# Altium footprint library ZPWL.PcbLib: 168 footprints (part 2 of 11)
Each footprint in its own frame and in the unit in brackets; x right, y up, seen from the top. Pads: shape width x height; smd on the part's side, far side on the other; paste and mask are expansions set on the pad; w line width, h text height; cw(c..) or ccw(c..) is an arc to the next point about the centre after c.
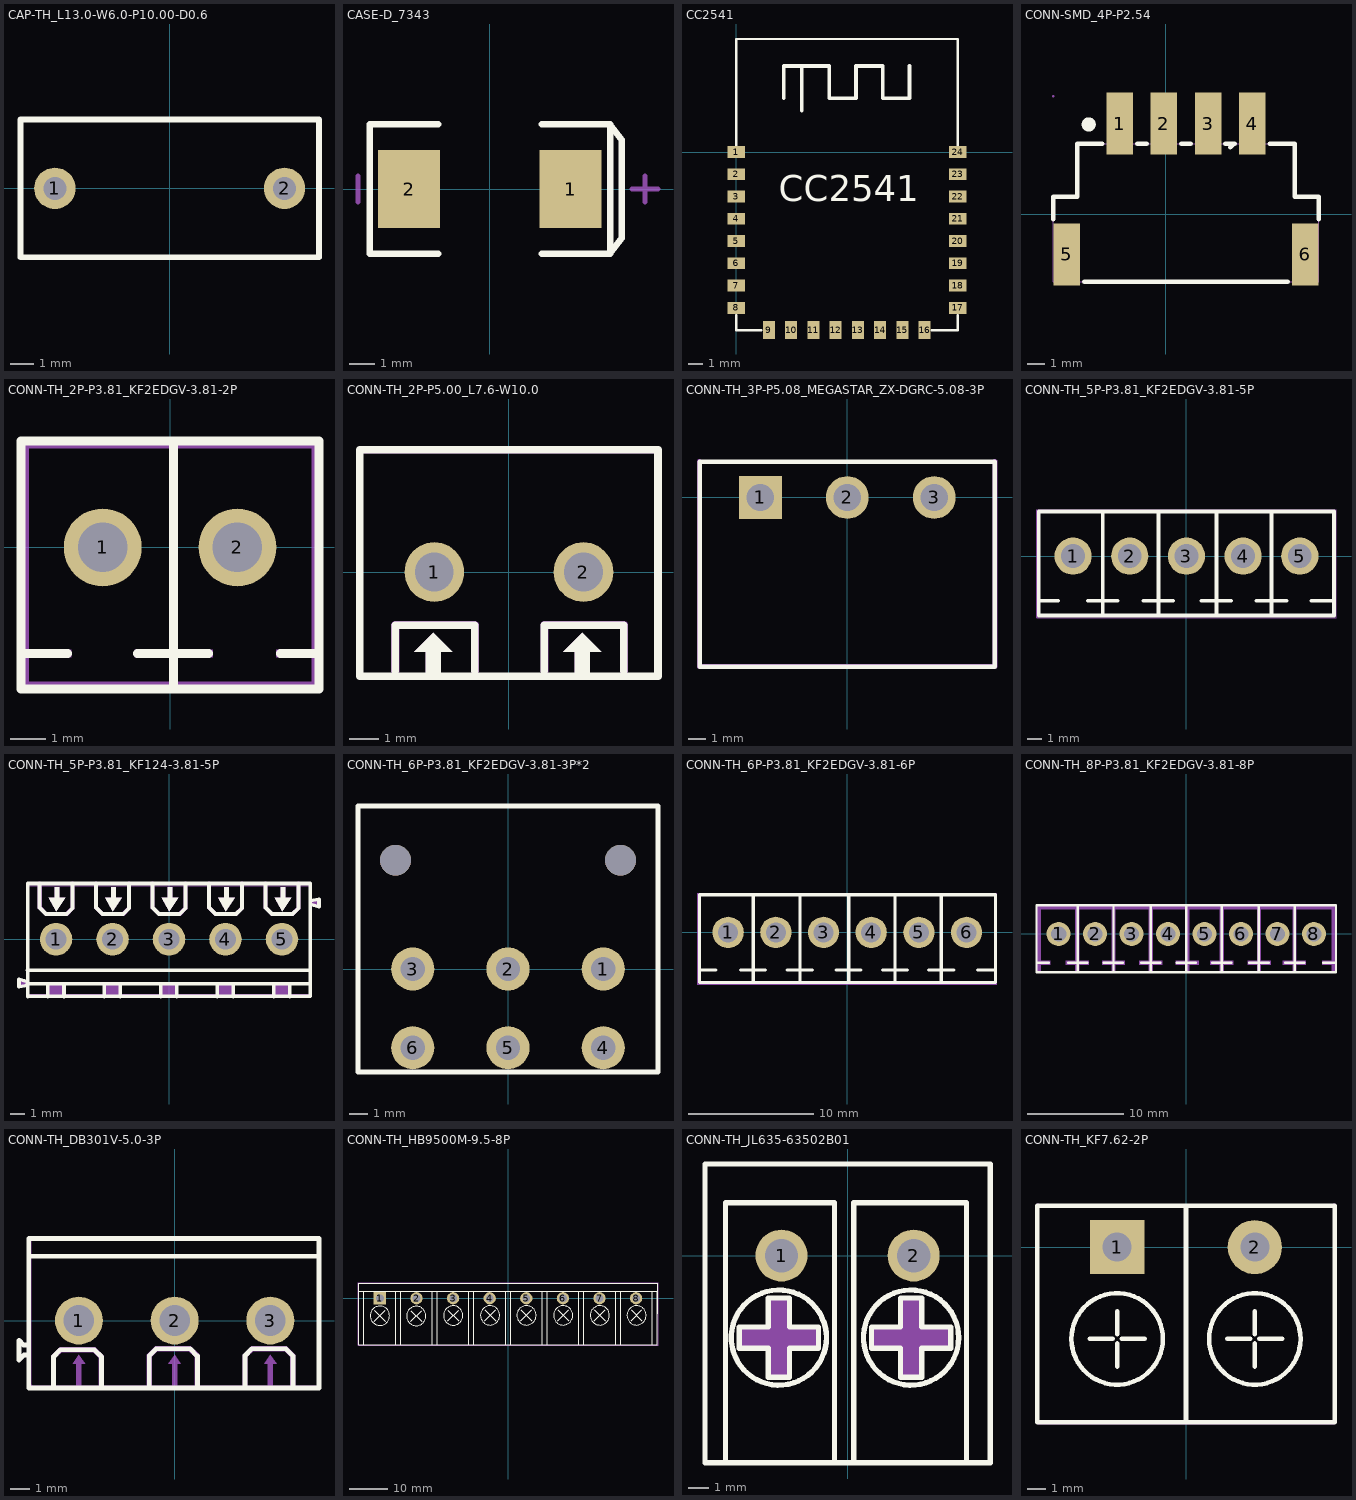
[diagram p1: the footprints below, top view; thin cyan lines are the x and y axes]

## CAP-TH_L13.0-W6.0-P10.00-D0.6 [mm]
pads (2):
  round 1.8 hole 1: 1(-5,0) 2(5,0)
Top Overlay:
  lines w0.254: -6.5,-3 -6.5,3 6.5,3 6.5,-3 -6.5,-3
Mechanical 15:
  region: -4.7,0 -4.7,0.06 -4.746,0.17 -4.83,0.254 -4.94,0.3 -5.06,0.3 -5.17,0.254 -5.254,0.17 -5.3,0.06 -5.3,0 -5.3,-0.06 -5.254,-0.17 -5.17,-0.254 -5.06,-0.3 -4.94,-0.3 -4.83,-0.254 -4.746,-0.17 -4.7,-0.06 -4.7,0
  region: 5.3,0 5.3,0.06 5.254,0.17 5.17,0.254 5.06,0.3 4.94,0.3 4.83,0.254 4.746,0.17 4.7,0.06 4.7,0 4.7,-0.06 4.746,-0.17 4.83,-0.254 4.94,-0.3 5.06,-0.3 5.17,-0.254 5.254,-0.17 5.3,-0.06 5.3,0
  region: -6.44,-3 -6.44,-2.975 -6.475,-2.94 -6.525,-2.94 -6.56,-2.975 -6.56,-3 -6.56,-3.025 -6.525,-3.06 -6.475,-3.06 -6.44,-3.025 -6.44,-3
  lines w0.051: -6.5,-3 6.5,-3 6.5,3 -6.5,3 -6.5,-3

## CASE-D_7343 [mm]
pads (2):
  rect 2.4x3 smd: 1(3.12,0) 2(-3.12,0)
Top Overlay:
  lines w0.254: -2,-2.5 -4.647,-2.5 -4.647,2.5 -2,2.5 ; 2,-2.5 4.647,-2.5 ; 2,2.5 4.647,2.5 ; 4.647,-2.5 5.1,-1.9 5.1,1.9 4.647,2.5 ; 4.647,-2.5 4.647,2.5
Mechanical 15:
  lines w0.203: -5.1,-0.5 -5.1,0.5 ; 5.5,0 6.5,0 ; 6,-0.5 6,0.5
3D body "User Library-AVX_D_CASE.STEP": height 3.01, standoff 0, extent -3.701,-2.225 3.7,2.225

## CC2541 [mm]
pads (24):
  rect 1.2x0.8 smd: 1(0,0) 2(0,-1.5) 3(0,-3) 4(0,-4.5) 5(0,-6) 6(0,-7.5) 7(0,-9) 8(0,-10.5) 17(14.935,-10.5) 18(14.935,-9) 19(14.935,-7.5) 20(14.935,-6) 21(14.935,-4.5) 22(14.935,-3) 23(14.935,-1.5) 24(14.935,0)
  rect 0.8x1.2 smd: 9(2.202,-12) 10(3.702,-12) 11(5.202,-12) 12(6.702,-12) 13(8.202,-12) 14(9.702,-12) 15(11.202,-12) 16(12.702,-12)
Top Overlay:
  lines w0.16: 0,-10.984 0,-12 1.702,-12 ; 0,0.465 0,2.56 0,7.615 1.905,7.615 14.935,7.615 14.935,1.188 14.935,0.465 ; 13.176,-12 14.935,-12 14.935,-10.984
  lines w0.254: 3.2,3.615 3.2,5.799 6.274,5.799 6.274,3.615 8.077,3.615 8.077,5.799 9.881,5.799 9.881,3.615 11.684,3.615 11.684,5.799 ; 4.42,2.802 4.42,5.723
  text "CC2541" at 2.87,-3.878 h3

## CONN-SMD_4P-P2.54 [mm]
pads (6):
  rect 1.5x3.5 smd paste+0 mask+0.05: 1(-2.608,5.114) 2(-0.108,5.114) 3(2.392,5.114) 4(4.892,5.114) 5(-5.588,-2.286) 6(7.872,-2.286)
Top Overlay:
  circle w0.4: c-4.358,5.064 r0.2
  lines w0.254: -6.358,-0.306 -6.358,0.964 -6.208,0.964 -5.008,0.964 -5.008,3.964 -3.589,3.964 ; -4.607,-3.836 6.891,-3.836 ; -1.627,3.964 -1.089,3.964 ; 0.873,3.964 1.411,3.964 ; 3.373,3.964 3.911,3.964 3.842,3.964 3.642,3.764 ; 5.873,3.964 7.292,3.964 7.292,3.814 7.292,0.964 8.642,0.964 8.642,-0.306
Mechanical 6:
  circle w0.4: c-2.558,4.714 r0.2
Mechanical 15:
  region: -5.658,-0.936 -5.358,-0.936 -5.358,-3.636 -5.658,-3.636
  region: 7.642,-0.936 7.942,-0.936 7.942,-3.636 7.642,-3.636
  region: 4.572,6.664 5.212,6.664 5.212,3.664 4.572,3.664
  region: 2.072,6.664 2.712,6.664 2.712,3.664 2.072,3.664
  region: -0.428,6.664 0.212,6.664 0.212,3.664 -0.428,3.664
  region: -2.928,6.664 -2.288,6.664 -2.288,3.664 -2.928,3.664
  region: -6.298,6.664 -6.298,6.689 -6.333,6.724 -6.383,6.724 -6.418,6.689 -6.418,6.664 -6.418,6.639 -6.383,6.604 -6.333,6.604 -6.298,6.639
  lines w0.051: -6.358,-3.836 -6.358,0.964 -5.008,0.964 -5.008,3.964 7.292,3.964 7.292,0.964 8.642,0.964 8.642,-3.836 4.192,-3.836 -6.358,-3.836

## CONN-TH_2P-P3.81_KF2EDGV-3.81-2P [mm]
pads (2):
  round 2.2 hole 1.4: 1(-1.905,0) 2(1.905,0)
Top Overlay:
  lines w0.254: -4.21,-3 -2.905,-3 ; -0.925,-3 1.085,-3 ; 0.095,-4 0.095,3 ; 3.115,-3 4.21,-3 ; -4.21,-4 4.21,-4 4.21,3 -4.21,3 -4.21,-4
Mechanical 6:
  region: -4.2,-2.9 -2.8,-2.9 -2.8,-3.1 -4.2,-3.1
  region: -1,-2.9 1.2,-2.9 1.2,-3.1 -1,-3.1
  region: 0,-1.9 0.2,-1.9 0.2,-3.9 0,-3.9
  region: 3,-2.9 4.2,-2.9 4.2,-3.1 3,-3.1
  region: -4.2,3 4.2,3 4.2,-2 4,-2 4,2.8 -4,2.8 -4,-2 -4.2,-2
  region: -4.2,-2 -4,-2 -4,-3.8 4,-3.8 4,-2 4.2,-2 4.2,-4 -4.2,-4 -4.2,-3.2
Mechanical 15:
  region: -4.15,3 -4.15,3.025 -4.185,3.06 -4.235,3.06 -4.27,3.025 -4.27,3 -4.27,2.975 -4.235,2.94 -4.185,2.94 -4.15,2.975 -4.15,3
  region: -1.505,-0.4 -2.305,-0.4 -2.305,0.4 -1.505,0.4
  region: 2.305,-0.4 1.505,-0.4 1.505,0.4 2.305,0.4
  lines w0.051: -4.21,-4 -4.21,3 4.21,3 4.21,-4 -4.21,-4
3D body "KF2EDGV-3.81-2P.STEP": height 9.3, standoff -3.4, extent -4.163,-4.129 4.257,3.072

## CONN-TH_2P-P5.00_L7.6-W10.0 [mm]
pads (2):
  round 2 hole 1.3: 1(-2.5,0) 2(2.5,0)
Top Overlay:
  region: -2.794,-3.556 -2.794,-2.667 -3.175,-2.667 -2.54,-2.032 -1.905,-2.667 -2.286,-2.667 -2.286,-3.556
  region: 2.206,-3.556 2.206,-2.667 1.825,-2.667 2.46,-2.032 3.095,-2.667 2.714,-2.667 2.714,-3.556
  lines w0.254: -3.81,-3.302 -3.81,-1.778 -1.143,-1.778 -1.143,-3.302 ; 1.19,-3.302 1.19,-1.778 3.857,-1.778 3.857,-3.302 ; -5,-3.5 5,-3.5 5,4.1 -5,4.1 -5,-3.5
Mechanical 6:
  region: -3.937,-3.302 -3.937,-1.778 -3.937,-1.753 -3.918,-1.706 -3.882,-1.67 -3.835,-1.651 -3.81,-1.651 -1.143,-1.651 -1.118,-1.651 -1.071,-1.67 -1.035,-1.706 -1.016,-1.753 -1.016,-1.778 -1.016,-3.302 -1.016,-3.355 -1.091,-3.429 -1.196,-3.429 -1.27,-3.355 -1.27,-3.302 -1.27,-1.905 -3.683,-1.905 -3.683,-3.302 -3.683,-3.355 -3.758,-3.429 -3.863,-3.429 -3.937,-3.355 -3.937,-3.302
  region: -2.794,-3.556 -2.794,-2.667 -3.175,-2.667 -2.54,-2.032 -1.905,-2.667 -2.286,-2.667 -2.286,-3.556
  region: 2.206,-3.556 2.206,-2.667 1.825,-2.667 2.46,-2.032 3.095,-2.667 2.714,-2.667 2.714,-3.556
  region: 1.063,-3.302 1.063,-1.778 1.063,-1.753 1.082,-1.706 1.118,-1.67 1.165,-1.651 1.19,-1.651 3.857,-1.651 3.882,-1.651 3.929,-1.67 3.965,-1.706 3.984,-1.753 3.984,-1.778 3.984,-3.302 3.984,-3.355 3.909,-3.429 3.804,-3.429 3.73,-3.355 3.73,-3.302 3.73,-1.905 1.317,-1.905 1.317,-3.302 1.317,-3.355 1.242,-3.429 1.137,-3.429 1.063,-3.355 1.063,-3.302
Mechanical 15:
  region: -4.94,-3.5 -4.94,-3.475 -4.975,-3.44 -5.025,-3.44 -5.06,-3.475 -5.06,-3.5 -5.06,-3.525 -5.025,-3.56 -4.975,-3.56 -4.94,-3.525 -4.94,-3.5
  region: -2.8,0.5 -2.2,0.5 -2.2,-0.5 -2.8,-0.5
  region: 2.2,0.5 2.8,0.5 2.8,-0.5 2.2,-0.5
  lines w0.051: -5,-3.5 -5,4 5,4 5,-3.5 -5,-3.5
3D body "3D_PCB1_2023-10-07.step": height 11.6, standoff -2.2, extent -7.079,-3.5 5,5.901

## CONN-TH_3P-P5.08_MEGASTAR_ZX-DGRC-5.08-3P [mm]
pads (3):
  rect 2.5x2.5 hole 1.6 paste+0.051: 1(-5.08,0)
  round 2.5 hole 1.6 paste+0.051: 2(0,0) 3(5.08,0)
Top Overlay:
  lines w0.254: -8.632,-9.896 8.625,-9.896 8.625,2.098 -8.632,2.098 -8.632,-9.896
Mechanical 2:
  region: -8.531,2.094 -8.531,-9.76 8.497,-9.76 8.497,2.111 8.497,2.164 8.571,2.238 8.677,2.238 8.751,2.164 8.751,2.111 8.751,-9.887 8.751,-9.912 8.732,-9.959 8.696,-9.995 8.649,-10.014 8.624,-10.014 -8.658,-10.014 -8.683,-10.014 -8.73,-9.995 -8.766,-9.959 -8.785,-9.912 -8.785,-9.887 -8.785,2.094 -8.785,2.147 -8.711,2.221 -8.605,2.221 -8.531,2.147
Mechanical 6:
  lines w0.051: -8.62,-9.9 -8.62,2.1 8.62,2.1 8.62,-9.9 -8.62,-9.9
Mechanical 8:
  region: -8.56,-9.9 -8.56,-9.925 -8.595,-9.96 -8.645,-9.96 -8.68,-9.925 -8.68,-9.9 -8.68,-9.875 -8.645,-9.84 -8.595,-9.84 -8.56,-9.875
Mechanical 9:
  region: 4.58,0.5 5.58,0.5 5.58,-0.5 4.58,-0.5
  region: -0.5,0.5 0.5,0.5 0.5,-0.5 -0.5,-0.5
  region: -5.58,0.5 -4.58,0.5 -4.58,-0.5 -5.58,-0.5

## CONN-TH_5P-P3.81_KF2EDGV-3.81-5P [mm]
pads (5):
  round 2.5 hole 1.6: 1(-7.62,0) 2(-3.81,0) 3(0,0) 4(3.81,0) 5(7.62,0)
Top Overlay:
  lines w0.254: -9.925,-3 -8.62,-3 ; -6.64,-3 -4.63,-3 ; -5.62,-4 -5.62,3 ; -2.905,-3 -0.895,-3 ; -1.885,-4 -1.885,3 ; 0.995,-3 3.005,-3 ; 2.015,-4 2.015,3 ; 4.71,-3 6.72,-3 ; 5.715,-4 5.715,3 ; 8.41,-3 9.925,-3 ; -9.925,-4 9.925,-4 9.925,3 -9.925,3 -9.925,-4
Mechanical 15:
  drawing of 10 lines, arcs and shapes, not listed

## CONN-TH_5P-P3.81_KF124-3.81-5P [mm]
pads (5):
  round 2.2 hole 1.4: 1(-7.62,0) 2(-3.81,0) 3(0,0) 4(3.81,0) 5(7.62,0)
Top Overlay:
  region: -8.1,2.8 -7,2.8 -7.6,1.9
  region: -7.7,2.9 -7.7,3.5 -7.4,3.5 -7.4,2.8 -7.7,2.8
  region: -3.89,2.9 -3.89,3.5 -3.59,3.5 -3.59,2.8 -3.89,2.8
  region: -4.29,2.8 -3.19,2.8 -3.79,1.9
  region: -0.08,2.9 -0.08,3.5 0.22,3.5 0.22,2.8 -0.08,2.8
  region: -0.48,2.8 0.62,2.8 0.02,1.9
  region: 3.73,2.9 3.73,3.5 4.03,3.5 4.03,2.8 3.73,2.8
  region: 3.33,2.8 4.43,2.8 3.83,1.9
  region: 7.54,2.9 7.54,3.5 7.84,3.5 7.84,2.8 7.54,2.8
  region: 7.14,2.8 8.24,2.8 7.64,1.9
  lines w0.254: -9.542,-3 9.503,-3 ; -9.542,-2.1 9.503,-2.1 ; -9.525,-3.11 -10.12,-3.2 -10.12,-2.7 -9.525,-2.861 ; -8.175,-3.859 -8.175,-3 ; -7.092,-3.859 -7.092,-3 ; -4.365,-3.859 -4.365,-3 ; -3.282,-3.859 -3.282,-3 ; -0.555,-3.859 -0.555,-3 ; 0.528,-3.859 0.528,-3 ; 3.255,-3.859 3.255,-3 ; 4.338,-3.859 4.338,-3 ; 7.065,-3.859 7.065,-3 ; 8.148,-3.859 8.148,-3 ; 9.525,2.351 10.119,2.19 10.119,2.69 9.525,2.6 ; -8.729,2.128 -8.729,3.76 -8.729,2.128 ; -8.729,2.128 -8.3,1.7 ; -8.729,2.128 -8.3,1.7 ; -8.3,1.7 -6.9,1.7 ; -8.3,1.7 -6.9,1.7 ; -6.9,1.7 -6.506,2.094 ; -6.9,1.7 -6.506,2.094 ; -6.506,2.094 -6.506,3.758 -6.506,2.094 ; -4.919,2.128 -4.919,3.76 -4.919,2.128 ; -4.919,2.128 -4.49,1.7 ; -4.919,2.128 -4.49,1.7 ; -4.49,1.7 -3.09,1.7 ; -4.49,1.7 -3.09,1.7 ; -3.09,1.7 -2.696,2.094 ; -3.09,1.7 -2.696,2.094 ; -2.696,2.094 -2.696,3.758 -2.696,2.094 ; -1.109,2.128 -1.109,3.76 -1.109,2.128 ; -1.109,2.128 -0.68,1.7 ; -1.109,2.128 -0.68,1.7 ; -0.68,1.7 0.72,1.7 ; -0.68,1.7 0.72,1.7 ; 0.72,1.7 1.114,2.094 ; 0.72,1.7 1.114,2.094 ; 1.114,2.094 1.114,3.758 1.114,2.094 ; 2.701,2.128 2.701,3.76 2.701,2.128 ; 2.701,2.128 3.13,1.7 ; 2.701,2.128 3.13,1.7 ; 3.13,1.7 4.53,1.7 ; 3.13,1.7 4.53,1.7 ; 4.53,1.7 4.924,2.094 ; 4.53,1.7 4.924,2.094 ; 4.924,2.094 4.924,3.758 4.924,2.094 ; 6.511,2.128 6.511,3.76 6.511,2.128 ; 6.511,2.128 6.94,1.7 ; 6.511,2.128 6.94,1.7 ; 6.94,1.7 8.34,1.7 ; 6.94,1.7 8.34,1.7 ; 8.34,1.7 8.734,2.094 ; 8.34,1.7 8.734,2.094 ; 8.734,2.094 8.734,3.758 8.734,2.094 ; -9.525,-3.86 9.525,-3.85 9.525,3.75 -9.525,3.76 -9.525,-3.86
Mechanical 6:
  drawing of 22 lines, arcs and shapes, not listed
Mechanical 15:
  region: -9.46,-3.7 -9.46,-3.675 -9.495,-3.64 -9.545,-3.64 -9.58,-3.675 -9.58,-3.7 -9.58,-3.725 -9.545,-3.76 -9.495,-3.76 -9.46,-3.725 -9.46,-3.7
  region: 7.195,0.25 8.045,0.25 8.045,-0.25 7.195,-0.25
  region: -0.425,0.25 0.425,0.25 0.425,-0.25 -0.425,-0.25
  region: -4.235,0.25 -3.385,0.25 -3.385,-0.25 -4.235,-0.25
  region: -8.045,0.25 -7.195,0.25 -7.195,-0.25 -8.045,-0.25
  region: 3.385,0.25 4.235,0.25 4.235,-0.25 3.385,-0.25
  lines w0.051: -9.52,-3.7 9.53,-3.7 9.53,3.6 -9.52,3.6 -9.52,-3.7

## CONN-TH_6P-P3.81_KF2EDGV-3.81-3P*2 [mm]
pads (6):
  round 2.3 hole 1.3: 1(5.08,0) 2(0,0) 3(-5.08,0) 4(5.08,-4.2) 5(0,-4.2) 6(-5.08,-4.2)
via -6,5.8 diameter 1.65 hole 1.65
via 6,5.8 diameter 1.65 hole 1.65
Top Overlay:
  lines w0.254: -8,-5.5 8,-5.5 8,8.7 -8,8.7 -8,-5.5
3D body "SA2EDGKNH-5.08.STEP": height 13.63, standoff -3.07, extent -8,-5.564 8,8.636

## CONN-TH_6P-P3.81_KF2EDGV-3.81-6P [mm]
pads (6):
  round 2.5 hole 1.6: 1(-9.525,0) 2(-5.715,0) 3(-1.905,0) 4(1.905,0) 5(5.715,0) 6(9.525,0)
Top Overlay:
  lines w0.254: -11.83,-3 -10.525,-3 ; -8.545,-3 -6.535,-3 ; -7.525,-4 -7.525,3 ; -4.81,-3 -2.8,-3 ; -3.79,-4 -3.79,3 ; -0.91,-3 1.1,-3 ; 0.11,-4 0.11,3 ; 2.805,-3 4.815,-3 ; 3.81,-4 3.81,3 ; 6.505,-3 8.515,-3 ; 7.495,-4 7.495,3 ; 10.405,-3 11.83,-3 ; -11.83,-4 -11.83,3 11.83,3 11.83,-4 -11.83,-4
Mechanical 15:
  drawing of 11 lines, arcs and shapes, not listed

## CONN-TH_8P-P3.81_KF2EDGV-3.81-8P [mm]
pads (8):
  round 2.5 hole 1.6: 1(-13.335,0) 2(-9.525,0) 3(-5.715,0) 4(-1.905,0) 5(1.905,0) 6(5.715,0) 7(9.525,0) 8(13.335,0)
Top Overlay:
  lines w0.254: -15.64,-3 -14.335,-3 ; -12.355,-3 -10.345,-3 ; -11.335,-4 -11.335,3 ; -8.62,-3 -6.61,-3 ; -7.6,-4 -7.6,3 ; -4.72,-3 -2.71,-3 ; -3.7,-4 -3.7,3 ; -1.005,-3 1.005,-3 ; 0,-4 0,3 ; 2.695,-3 4.705,-3 ; 3.685,-4 3.685,3 ; 6.595,-3 8.605,-3 ; 7.585,-4 7.585,3 ; 10.33,-3 12.34,-3 ; 11.32,-4 11.32,3 ; 14.32,-3 15.625,-3 ; -15.64,-4 -15.64,3 15.64,3 15.64,-4 -15.64,-4
Mechanical 6:
  region: 14.2,-2.8 14.2,-3.2 15.2,-3.2 15.2,-2.8
  region: 15.2,2.6 15.2,-4 15.6,-4 15.6,2.6
  region: 10.1,-2.8 10.1,-3.2 12.5,-3.2 12.5,-2.8
  region: 11.1,2.6 11.1,-4 11.5,-4 11.5,2.6
  region: 6.4,-2.8 6.4,-3.2 8.8,-3.2 8.8,-2.8
  region: 7.4,2.6 7.4,-4 7.8,-4 7.8,2.6
  region: 2.5,-2.8 2.5,-3.2 4.9,-3.2 4.9,-2.8
  region: 3.5,2.6 3.5,-4 3.9,-4 3.9,2.6
  region: -1.09,-2.8 -1.09,-3.2 1.31,-3.2 1.31,-2.8
  region: -0.09,2.6 -0.09,-4 0.31,-4 0.31,2.6
  region: -4.9,-2.8 -4.9,-3.2 -2.5,-3.2 -2.5,-2.8
  region: -3.9,2.6 -3.9,-4 -3.5,-4 -3.5,2.6
  region: -8.8,-2.8 -8.8,-3.2 -6.4,-3.2 -6.4,-2.8
  region: -7.8,2.6 -7.8,-4 -7.4,-4 -7.4,2.6
  region: -11.4,3 15.6,3 15.6,2.6 -11.4,2.6
  region: -12.6,-2.8 -12.6,-3.2 -10.2,-3.2 -10.2,-2.8
  region: -15.2,-2.8 -14.2,-2.8 -14.2,-3.2 -15.2,-3.2
  region: -11.2,2.7 -11.2,-3.9 -11.6,-3.9 -11.6,2.7
  region: -15.2,3 -11.4,3 -11.4,2.6 -15.2,2.6
  region: -15.6,-3 -15.6,3 -15.2,3 -15.2,-4 -15.6,-4
Mechanical 15:
  region: 13.735,-0.4 12.935,-0.4 12.935,0.4 13.735,0.4
  region: 9.925,-0.4 9.125,-0.4 9.125,0.4 9.925,0.4
  region: 6.115,-0.4 5.315,-0.4 5.315,0.4 6.115,0.4
  region: 2.305,-0.4 1.505,-0.4 1.505,0.4 2.305,0.4
  region: -1.505,-0.4 -2.305,-0.4 -2.305,0.4 -1.505,0.4
  region: -5.315,-0.4 -6.115,-0.4 -6.115,0.4 -5.315,0.4
  region: -9.125,-0.4 -9.925,-0.4 -9.925,0.4 -9.125,0.4
  region: -12.935,-0.4 -13.735,-0.4 -13.735,0.4 -12.935,0.4
  region: -15.575,-4 -15.575,-3.975 -15.61,-3.94 -15.66,-3.94 -15.695,-3.975 -15.695,-4 -15.695,-4.025 -15.66,-4.06 -15.61,-4.06 -15.575,-4.025 -15.575,-4
  lines w0.051: -15.635,-4 15.635,-4 15.635,3 -15.635,3 -15.635,-4
3D body "3Dm.STEP": height 9.3, standoff -3.4, extent -15.92,-4.146 15.36,3.055

## CONN-TH_DB301V-5.0-3P [mm]
pads (3):
  round 2.5 hole 1.6: 1(-5,0) 2(0,0) 3(5,0)
Top Overlay:
  lines w0.254: -7.747,-1.804 -7.874,-1.804 -8.128,-2.058 -8.128,-1.042 -7.9,-1.27 -7.62,-1.27 ; -7.62,3.358 7.54,3.358 ; -6.327,-3.518 -6.327,-1.882 -5.969,-1.524 -4.191,-1.524 -3.81,-1.905 -3.81,-3.518 ; -1.327,-3.468 -1.327,-1.832 -0.969,-1.474 0.809,-1.474 1.19,-1.855 1.19,-3.468 ; 3.673,-3.469 3.673,-1.832 4.031,-1.474 5.809,-1.474 6.19,-1.855 6.19,-3.469 ; -7.62,-3.518 7.54,-3.518 7.54,4.282 -7.62,4.282 -7.62,-3.518
Mechanical 6:
  region: 5,-1.8 4.675,-2.266 4.875,-2.266 4.875,-3.434 4.875,-3.466 5.125,-3.484 5.125,-2.266 5.325,-2.266
  region: 0,-1.8 -0.325,-2.266 -0.125,-2.266 -0.125,-3.434 -0.125,-3.466 0.125,-3.484 0.125,-2.266 0.325,-2.266
  region: -5,-1.8 -5.325,-2.266 -5.125,-2.266 -5.125,-3.434 -5.125,-3.466 -4.875,-3.484 -4.875,-2.266 -4.675,-2.266
  region: 3.55,-3.55 3.55,-1.8 4,-1.35 5.85,-1.35 6.3,-1.8 6.3,-3.55 6.05,-3.55 6.05,-1.9 5.75,-1.6 4.1,-1.6 3.85,-1.85 3.8,-1.9 3.8,-3.55
  region: -1.45,-3.55 -1.45,-1.8 -1,-1.35 0.85,-1.35 1.3,-1.8 1.3,-3.55 1.05,-3.55 1.05,-1.9 0.75,-1.6 -0.9,-1.6 -1.15,-1.85 -1.2,-1.9 -1.2,-3.55
  region: -6.45,-3.6 -6.45,-1.85 -6,-1.4 -4.15,-1.4 -3.7,-1.85 -3.7,-3.6 -3.95,-3.6 -3.95,-1.95 -4.25,-1.65 -5.9,-1.65 -6.15,-1.9 -6.2,-1.95 -6.2,-3.6
Mechanical 15:
  region: 5.5,0 5.5,0.099 5.424,0.283 5.283,0.424 5.099,0.5 4.901,0.5 4.717,0.424 4.576,0.283 4.5,0.099 4.5,0 4.5,-0.099 4.576,-0.283 4.717,-0.424 4.901,-0.5 5.099,-0.5 5.283,-0.424 5.424,-0.283 5.5,-0.099 5.5,0
  region: -4.5,0 -4.5,0.099 -4.576,0.283 -4.717,0.424 -4.901,0.5 -5.099,0.5 -5.283,0.424 -5.424,0.283 -5.5,0.099 -5.5,0 -5.5,-0.099 -5.424,-0.283 -5.283,-0.424 -5.099,-0.5 -4.901,-0.5 -4.717,-0.424 -4.576,-0.283 -4.5,-0.099 -4.5,0
  region: 0.5,0 0.5,0.099 0.424,0.283 0.283,0.424 0.099,0.5 -0.099,0.5 -0.283,0.424 -0.424,0.283 -0.5,0.099 -0.5,0 -0.5,-0.099 -0.424,-0.283 -0.283,-0.424 -0.099,-0.5 0.099,-0.5 0.283,-0.424 0.424,-0.283 0.5,-0.099 0.5,0
  region: -7.433,-3.409 -7.433,-3.384 -7.468,-3.349 -7.518,-3.349 -7.553,-3.384 -7.553,-3.409 -7.553,-3.434 -7.518,-3.469 -7.468,-3.469 -7.433,-3.434 -7.433,-3.409
  lines w0.051: -7.493,-3.409 7.507,-3.409 7.507,4.191 -7.493,4.191 -7.493,-3.409

## CONN-TH_HB9500M-9.5-8P [mm]
pads (8):
  rect 3.21x3.2 hole 2: 1(-33.25,0)
  round 3.2 hole 2: 2(-23.75,0) 3(-14.25,0) 4(-4.75,0) 5(4.75,0) 6(14.25,0) 7(23.75,0) 8(33.25,0)
Top Overlay:
  circle w0.254: c-4.66,-4.44 r2.5
  circle w0.254: c-14.22,-4.46 r2.5
  circle w0.254: c-23.82,-4.59 r2.5
  circle w0.254: c-33.25,-4.52 r2.5
  circle w0.254: c4.784,-4.437 r2.5
  circle w0.254: c14.309,-4.437 r2.5
  circle w0.254: c23.834,-4.437 r2.5
  circle w0.254: c33.359,-4.437 r2.5
  lines w0.254: -38.75,1.855 38.75,1.855 ; -37.45,-12.051 -37.45,1.749 ; -34.664,-5.934 -31.836,-3.106 ; -34.664,-3.106 -31.836,-5.934 ; -29.15,-12.051 -29.15,1.749 ; -27.85,-12.051 -27.85,1.749 ; -25.234,-6.004 -22.406,-3.176 ; -25.234,-3.176 -22.406,-6.004 ; -19.65,-12.051 -19.65,1.749 ; -18.35,-12.051 -18.35,1.749 ; -15.634,-5.874 -12.806,-3.046 ; -15.634,-3.046 -12.806,-5.874 ; -10.15,-12.051 -10.15,1.749 ; -8.85,-12.051 -8.85,1.749 ; -6.074,-5.854 -3.246,-3.026 ; -6.074,-3.026 -3.246,-5.854 ; -0.55,-12.051 -0.55,1.749 ; 0.655,-12.027 0.655,1.773 ; 3.37,-5.851 6.199,-3.022 ; 3.37,-3.022 6.199,-5.851 ; 8.855,-12.027 8.855,1.773 ; 8.88,-12.027 8.88,1.773 ; 10.154,-12.027 10.154,1.773 ; 10.18,-12.027 10.18,1.773 ; 12.895,-5.851 15.724,-3.022 ; 12.895,-3.022 15.724,-5.851 ; 18.38,-12.027 18.38,1.773 ; 18.405,-12.027 18.405,1.773 ; 19.679,-12.027 19.679,1.773 ; 19.705,-12.027 19.705,1.773 ; 22.42,-5.851 25.249,-3.022 ; 22.42,-3.022 25.249,-5.851 ; 27.905,-12.027 27.905,1.773 ; 27.93,-12.027 27.93,1.773 ; 29.204,-12.027 29.204,1.773 ; 29.23,-12.027 29.23,1.773 ; 31.945,-5.851 34.774,-3.022 ; 31.945,-3.022 34.774,-5.851 ; 37.45,-12.051 37.45,1.749 ; 37.475,-12.051 37.475,1.749 ; 38.75,3.949 -38.75,3.95 -38.75,-12.051 38.75,-12.051 38.807,3.914 ; 38.775,-12.051 38.775,1.749
Mechanical 15:
  drawing of 13 lines, arcs and shapes, not listed

## CONN-TH_JL635-63502B01 [mm]
pads (2):
  round 2.5 hole 1.6: 1(-3.175,0) 2(3.175,0)
Top Overlay:
  circle w0.254: c-3.302,-3.937 r2.286
  circle w0.254: c3.048,-3.937 r2.286
  lines w0.254: -5.863,-9.95 -5.863,2.54 -0.635,2.54 -0.635,-9.95 ; 0.301,-9.95 0.301,2.54 5.715,2.54 5.715,-9.95 ; -6.85,-9.95 -6.85,4.4 6.85,4.4 6.85,-9.95 -6.85,-9.95 ; -5.207,-4.445 -5.207,-3.429 -3.81,-3.429 -3.81,-2.032 -2.794,-2.032 -2.794,-3.429 -1.397,-3.429 -1.397,-4.445 -2.794,-4.445 -2.794,-5.842 -3.81,-5.842 -3.81,-4.445 -5.207,-4.445 ; 1.143,-4.445 1.143,-3.429 2.54,-3.429 2.54,-2.032 3.556,-2.032 3.556,-3.429 4.953,-3.429 4.953,-4.445 3.556,-4.445 3.556,-5.842 2.54,-5.842 2.54,-4.445 1.143,-4.445
Mechanical 6:
  region: -5.207,-4.445 -5.207,-3.429 -3.81,-3.429 -3.81,-2.032 -2.794,-2.032 -2.794,-3.429 -1.397,-3.429 -1.397,-4.445 -2.794,-4.445 -2.794,-5.842 -3.81,-5.842 -3.81,-4.445
  region: 1.143,-4.445 1.143,-3.429 2.54,-3.429 2.54,-2.032 3.556,-2.032 3.556,-3.429 4.953,-3.429 4.953,-4.445 3.556,-4.445 3.556,-5.842 2.54,-5.842 2.54,-4.445
Mechanical 15:
  region: -6.79,-9.95 -6.79,-9.925 -6.825,-9.89 -6.875,-9.89 -6.91,-9.925 -6.91,-9.95 -6.91,-9.975 -6.875,-10.01 -6.825,-10.01 -6.79,-9.975 -6.79,-9.95
  region: 2.675,0.35 3.675,0.35 3.675,-0.35 2.675,-0.35
  region: -3.675,0.35 -2.675,0.35 -2.675,-0.35 -3.675,-0.35
  lines w0.051: -6.85,-9.95 -6.85,4.35 6.85,4.35 6.85,-9.95 -6.85,-9.95
3D body "C409150.step": height 14.6, standoff -1.9, extent -6.965,-10.014 6.964,5.834

## CONN-TH_KF7.62-2P [mm]
height 0.254
pads (2):
  rect 3x3 hole 1.6: 1(-3.81,0)
  round 3 hole 1.6: 2(3.81,0)
Top Overlay:
  circle w0.254: c-3.81,-5.08 r2.53
  circle w0.254: c3.81,-5.08 r2.53
  lines w0.254: -5.334,-5.08 -4.064,-5.08 ; -3.81,-6.604 -3.81,-5.334 ; -3.81,-4.826 -3.81,-3.556 ; -3.556,-5.08 -2.286,-5.08 ; 0,-9.7 0,2.159 ; 2.286,-5.08 3.556,-5.08 ; 3.81,-6.604 3.81,-5.334 ; 3.81,-4.826 3.81,-3.556 ; 4.064,-5.08 5.334,-5.08 ; -8.22,-9.7 -8.22,2.3 8.22,2.3 8.22,-9.7 -8.22,-9.7
Mechanical 6:
  region: 8.14,2.22 8.14,-9.63 0.03,-9.63 0,-9.6 0,-9.8 8.2,-9.8 8.3,-9.7 8.3,2.35 8.25,2.4 8.15,2.4
  region: -8.14,2.22 -8.14,-9.63 -0.03,-9.63 0,-9.6 0,-9.8 -8.2,-9.8 -8.3,-9.7 -8.3,2.35 -8.25,2.4 -8.15,2.4
Mechanical 15:
  region: -8.16,-9.7 -8.16,-9.675 -8.195,-9.64 -8.245,-9.64 -8.28,-9.675 -8.28,-9.7 -8.28,-9.725 -8.245,-9.76 -8.195,-9.76 -8.16,-9.725 -8.16,-9.7
  region: 3.31,0.35 4.31,0.35 4.31,-0.35 3.31,-0.35
  region: -4.31,0.35 -3.31,0.35 -3.31,-0.35 -4.31,-0.35
  lines w0.051: -8.22,-9.7 8.22,-9.7 8.22,2.3 -8.22,2.3 -8.22,-9.7
3D body "3D_PCB1_2023-09-14.step": height 13.7, standoff -3.4, extent -8.342,-9.875 8.326,5.909